# EAGLE library part XC2C32A-QFG32 (library kmod-xilinx)
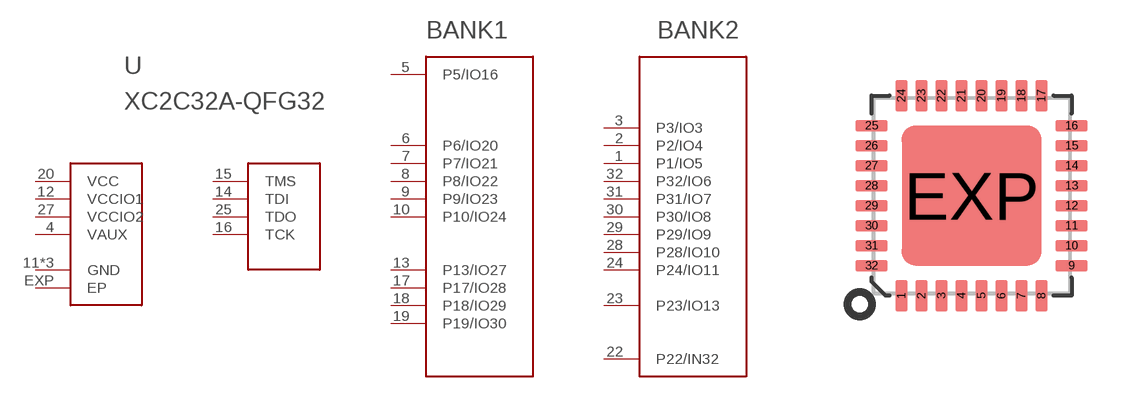
[diagram p1: symbol with the pads of QFN32-5X5; footprint QFN32-5X5]

Designator prefix -

## XC2C32A-QFG32  [QFN32-5X5]
1  P1/IO5
2  P2/IO4
3  P3/IO3
4  VAUX
5  P5/IO16
6  P6/IO20
7  P7/IO21
8  P8/IO22
9  P9/IO23
10  P10/IO24
11  GND
12  VCCIO1
13  P13/IO27
14  TDI
15  TMS
16  TCK
17  P17/IO28
18  P18/IO29
19  P19/IO30
20  VCC
21  GND
22  P22/IN32
23  P23/IO13
24  P24/IO11
25  TDO
26  GND
27  VCCIO2
28  P28/IO10
29  P29/IO9
30  P30/IO8
31  P31/IO7
32  P32/IO6
EXP  EP

## Footprint QFN32-5X5 (pad centres in mm)
QFN 32 Copied from somewhere (the ftdi library?). Untested
smd 0.3 x 0.8: 1 -1.75,-2.5; 2 -1.25,-2.5; 3 -0.75,-2.5; 4 -0.25,-2.5; 5 0.25,-2.5; 6 0.75,-2.5; 7 1.25,-2.5; 8 1.75,-2.5; 17 1.75,2.5; 18 1.25,2.5; 19 0.75,2.5; 20 0.25,2.5; 21 -0.25,2.5; 22 -0.75,2.5; 23 -1.25,2.5; 24 -1.75,2.5
smd 0.8 x 0.3: 9 2.5,-1.75; 10 2.5,-1.25; 11 2.5,-0.75; 12 2.5,-0.25; 13 2.5,0.25; 14 2.5,0.75; 15 2.5,1.25; 16 2.5,1.75; 25 -2.5,1.75; 26 -2.5,1.25; 27 -2.5,0.75; 28 -2.5,0.25; 29 -2.5,-0.25; 30 -2.5,-0.75; 31 -2.5,-1.25; 32 -2.5,-1.75
smd 3.5 x 3.5: EXP 0,0